# Altium schematic symbol library MAX17640CATA+.SchLib: 1 symbol
Pins are listed as number, name and electrical type; pins without a type are passive.

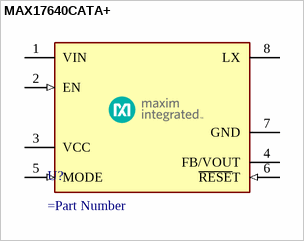
[diagram p0: symbol MAX17640CATA+]

## MAX17640CATA+
designator U?
=Description
footprint 8-TDFN-MAXIM
pins: 1 VIN, 2 EN (in), 3 VCC, 4 FB/VOUT, 5 MODE (in), 6 ~{RESE}T (in), 7 GND (power), 8 LX